# Altium schematic symbol library QT48A03.SchLib: 1 symbol
Pins are listed as number, name and electrical type; pins without a type are passive.

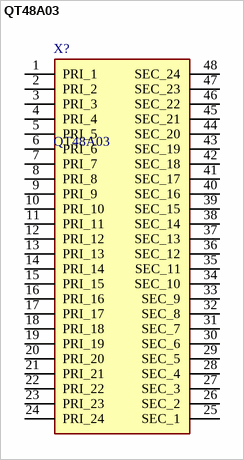
[diagram p0: symbol QT48A03]

## QT48A03
designator X?
1000Base-T DUAL Port Transformer Module; Manufacturer_Name: TNK; Geometry.Height: 7.8mm; Manufacturer_Part_Number: QT48A03; Mouser Part Number: *; Mouser Price/Stock: *; Arrow Part Number: *; Arrow Price/Stock: *; Datasheet Link: https://datasheet.lcsc.com/szlcsc/1810082007_TNK-QT48A03_C216365.pdf
footprint SOP102P1536X780-48N
pins: 1 PRI_1, 2 PRI_2, 3 PRI_3, 4 PRI_4, 5 PRI_5, 6 PRI_6, 7 PRI_7, 8 PRI_8, 9 PRI_9, 10 PRI_10, 11 PRI_11, 12 PRI_12, 13 PRI_13, 14 PRI_14, 15 PRI_15, 16 PRI_16, 17 PRI_17, 18 PRI_18, 19 PRI_19, 20 PRI_20, 21 PRI_21, 22 PRI_22, 23 PRI_23, 24 PRI_24, 25 SEC_1, 26 SEC_2, 27 SEC_3, 28 SEC_4, 29 SEC_5, 30 SEC_6, 31 SEC_7, 32 SEC_8, 33 SEC_9, 34 SEC_10, 35 SEC_11, 36 SEC_12, 37 SEC_13, 38 SEC_14, 39 SEC_15, 40 SEC_16, 41 SEC_17, 42 SEC_18, 43 SEC_19, 44 SEC_20, 45 SEC_21, 46 SEC_22, 47 SEC_23, 48 SEC_24